# EAGLE library part 749196221 (library WE-PP_TRANSFORMER)
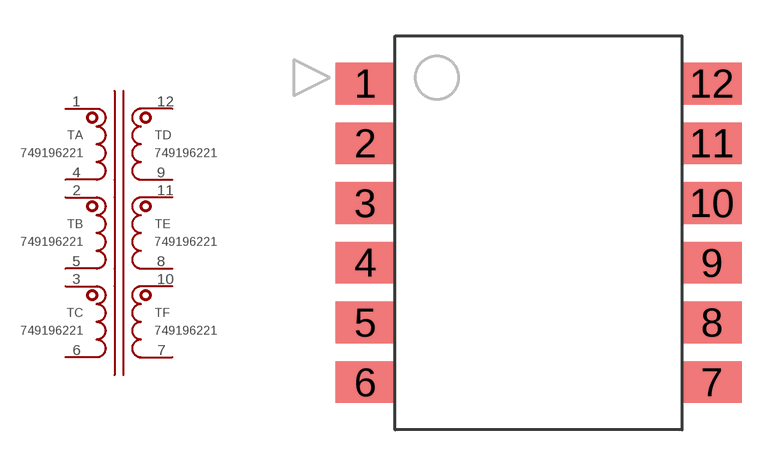
[diagram p6: symbol with the pads of WE-FLEX-749196-ER14.5/6; footprint WE-FLEX-749196-ER14.5/6]

Designator prefix T; gates A=WINDING-SINGLE-LEFT B=WINDING-SINGLE-LEFT C=WINDING-SINGLE-LEFT D=WINDING-SINGLE-RIGHT E=WINDING-SINGLE-RIGHT F=WINDING-SINGLE-RIGHT

## 749196221 (MF: Würth Elektronik; MPN: 749196221)  [WE-FLEX-749196-ER14.5/6]
1  A:1
2  B:1
3  C:1
4  A:2
5  B:2
6  C:2
7  F:2
8  E:2
9  D:2
10  F:1
11  E:1
12  D:1

## Footprint WE-FLEX-749196-ER14.5/6 (pad centres in mm)
smd 2.5 x 1.75: 1 -7.25,6.25; 2 -7.25,3.75; 3 -7.25,1.25; 4 -7.25,-1.25; 5 -7.25,-3.75; 6 -7.25,-6.25; 7 7.25,-6.25; 8 7.25,-3.75; 9 7.25,-1.25; 10 7.25,1.25; 11 7.25,3.75; 12 7.25,6.25